# Altium schematic symbol library Common_components.SchLib: 22 symbols
Pins are listed as number, name and electrical type; pins without a type are passive.

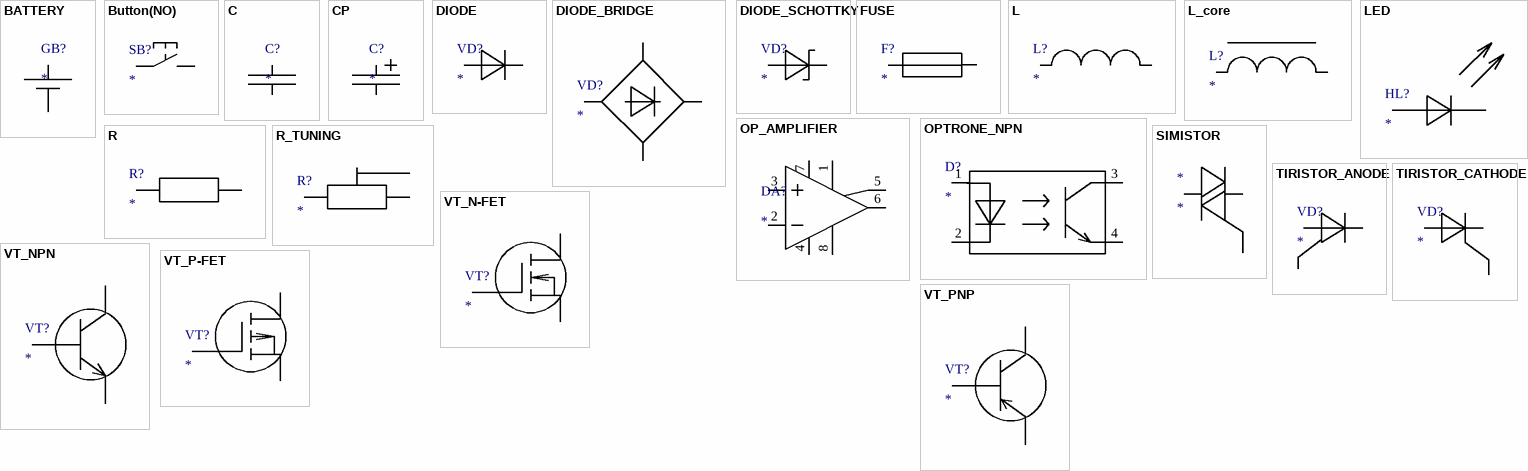
[diagram p0: symbols BATTERY to VT_PNP]

## BATTERY
designator GB?
pins: 1 +, 2 -

## Button(NO)
designator SB?
Type: *; Package: *
pins: 1, 2

## C
designator C?
Type: *; Power dissipation: *; smd size: *; tolerance: *; U max: *; Package: *
pins: 1, 2

## CP
designator C?
Type: *; Tolerance: *; U max: *; Package: *
pins: 1, 2

## DIODE
designator VD?
Type: *; U max: *; Package: *
pins: 1 C, 2 A

## DIODE_BRIDGE
designator VD?
pins: 1 C, 2 AC1, 3 AC2, 4 A

## DIODE_SCHOTTKY
designator VD?
Type: *; U max: *; Package: *
pins: 1 C, 2 A

## FUSE
designator F?
pins: 1, 2

## L
designator L?
Type: *; Power dissipation: *; smd size: *; tolerance: *; U max: *; Package: *
pins: 1, 2

## L_core
designator L?
pins: 1, 2

## LED
designator HL?
Type: Светодиод; Package: *
pins: 1 A, 2 C

## OP_AMPLIFIER
designator DA?
Type: Операционный усилитель; Package: [DIP-8]
pins: 1, 2, 3, 4, 5, 6, 7, 8

## OPTRONE_NPN
designator D?
Type: *; Package: *
pins: 1, 2, 3, 4

## R
designator R?
Type: *; Power dissipation: *; smd size: *; tolerance: *; U max: *; Package: *
pins: 1, 2

## R_TUNING
designator R?
Type: *; Power disipation: *; smd size: *; tolerance: *; U max: *; Pckage: *
pins: 1, 2, 3

## SIMISTOR
designator *
pins: 1 A, 2 C, 3 UE

## TIRISTOR_ANODE
designator VD?
pins: 1 A, 2 UE, 3 C

## TIRISTOR_CATHODE
designator VD?
pins: 1 A, 2 C, 3 UE

## VT_N-FET
designator VT?
pins: 1 G, 2 D, 3 S

## VT_NPN
designator VT?
pins: 1 B, 2 C, 3 E

## VT_P-FET
designator VT?
pins: 1 G, 2 D, 3 S

## VT_PNP
designator VT?
pins: 1 B, 2 C, 3 E